# EAGLE library part CDC329A (library fcounter)
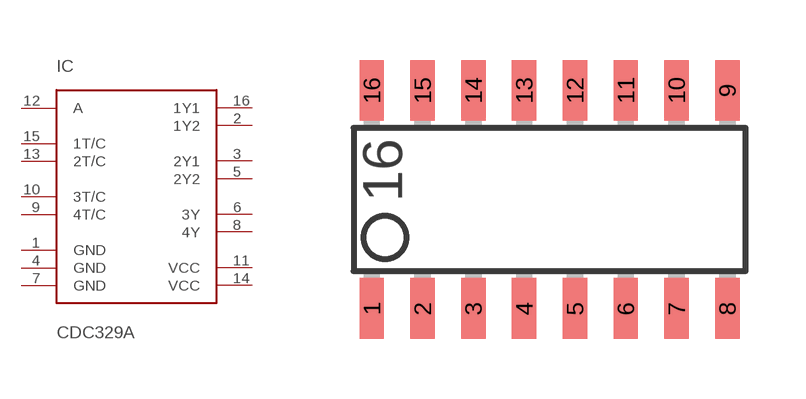
[diagram p8: symbol with the pads of SOIC16; footprint SOIC16]

Designator prefix IC

## CDC329A  [SOIC16]
1  GND  pwr
2  1Y2  out
3  2Y1  out
4  GND  pwr
5  2Y2  out
6  3Y  out
7  GND  pwr
8  4Y  out
9  4T/C  in
10  3T/C  in
11  VCC  pwr
12  A  in
13  2T/C  in
14  VCC  pwr
15  1T/C  in
16  1Y1  out

## Footprint SOIC16 (pad centres in mm)
smd 0.61 x 1.524: 1 -4.445,-2.794; 2 -3.175,-2.794; 3 -1.905,-2.794; 4 -0.635,-2.794; 5 0.635,-2.794; 6 1.905,-2.794; 7 3.175,-2.794; 8 4.445,-2.794; 9 4.445,2.667; 10 3.175,2.667; 11 1.905,2.667; 12 0.635,2.667; 13 -0.635,2.667; 14 -1.905,2.667; 15 -3.175,2.667; 16 -4.445,2.667